# Altium schematic symbol library MCP4901T-E_MS.Schlib: 1 symbol
Pins are listed as number, name and electrical type; pins without a type are passive.

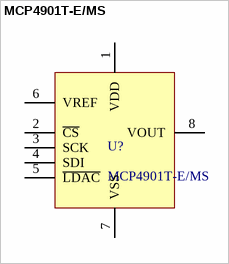
[diagram p0: symbol MCP4901T-E/MS]

## MCP4901T-E/MS
designator U?
IC DAC 8BIT V-OUT 8MSOP
pins: 1 VDD, 2 ~{CS}, 3 SCK, 4 SDI, 5 ~{LDAC}, 6 VREF, 7 VSS, 8 VOUT